# EAGLE library part IX4428N (library IX4428N)
DRIVER, MOSFET, DUAL 1.5A
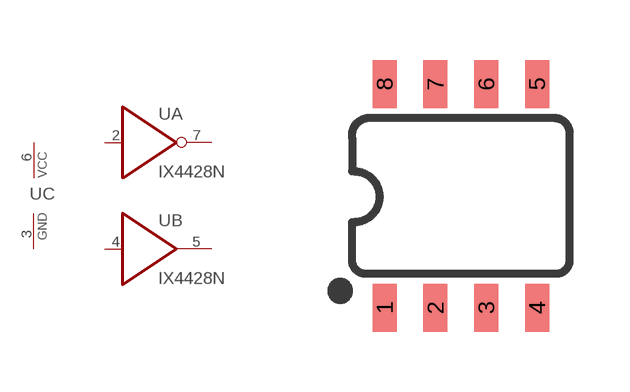
[diagram p0: symbol with the pads of SO08; footprint SO08]

Designator prefix U; gates A=7405 B=7407 C=PWRN

## IX4428N  [SO08]
2  A:I  in
3  C:GND  pwr
4  B:I  in
5  B:O  out
6  C:VCC  pwr
7  A:O  out

## Footprint SO08 (pad centres in mm)
SOIC, 0.15 inch width
smd 0.6 x 1.2: 1 -1.905,-2.8; 2 -0.635,-2.8; 3 0.635,-2.8; 4 1.905,-2.8; 5 1.905,2.8; 6 0.635,2.8; 7 -0.635,2.8; 8 -1.905,2.8